# Altium footprint library RCID.PcbLib: 104 footprints (part 6 of 7)
Each footprint in its own frame and in the unit in brackets; x right, y up, seen from the top. Pads: shape width x height; smd on the part's side, far side on the other; paste and mask are expansions set on the pad; w line width, h text height; cw(c..) or ccw(c..) is an arc to the next point about the centre after c.
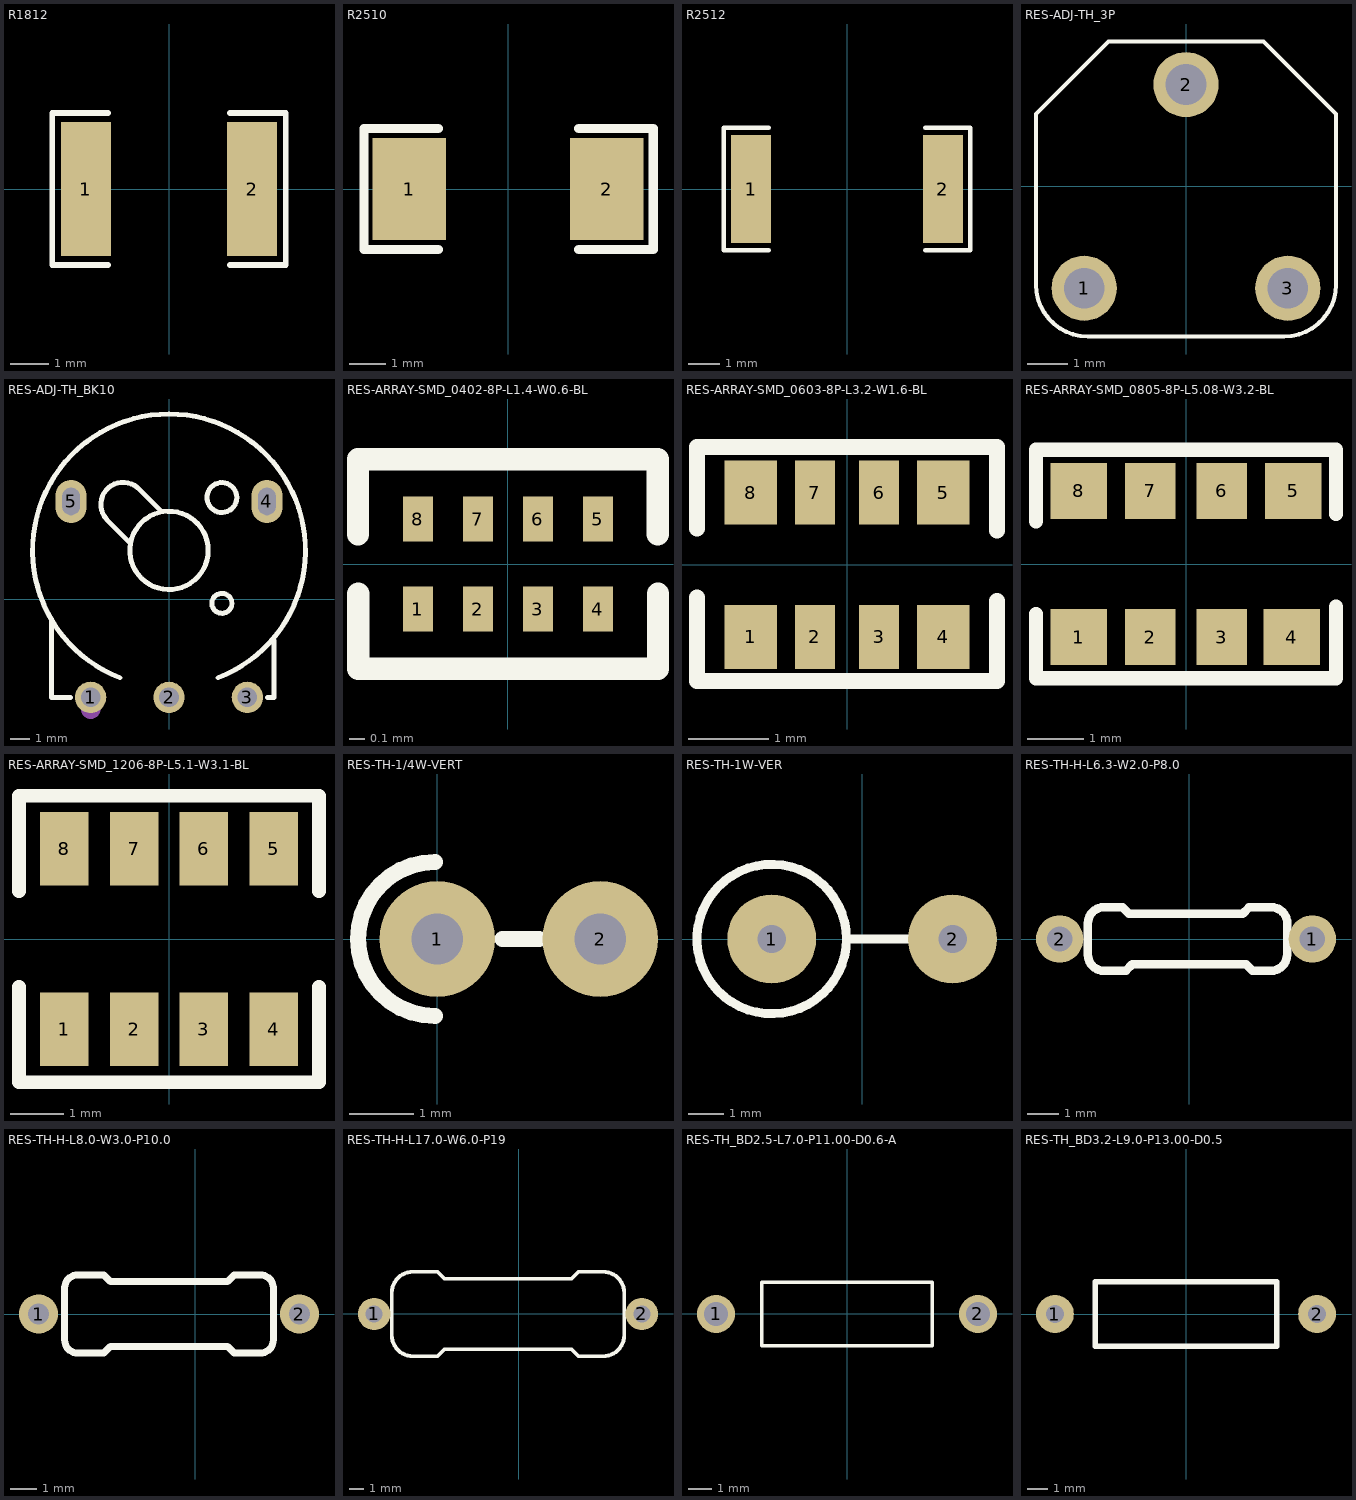
[diagram p5: the footprints below, top view; thin cyan lines are the x and y axes]

## R1812 [mm]
pads (2):
  rect 1.283x3.456 smd paste-100 mask+0.051: 1(-2.141,0) 2(2.141,0)
Top Overlay:
  lines w0.152: -1.576,-1.957 -3.011,-1.957 -3.011,1.957 -1.576,1.957 ; 1.576,-1.957 3.011,-1.957 3.011,1.957 1.576,1.957
Top Paste:
  region: 1.5,-1.628 1.5,-0.688 1.6,-0.588 1.836,-0.588 1.936,-0.488 1.936,0.488 1.836,0.588 1.6,0.588 1.5,0.688 1.5,1.628 1.6,1.728 2.683,1.728 2.783,1.628 2.783,-1.628 2.683,-1.728 1.6,-1.728
  region: -1.5,-1.628 -1.5,-0.688 -1.6,-0.588 -1.836,-0.588 -1.936,-0.488 -1.936,0.488 -1.836,0.588 -1.6,0.588 -1.5,0.688 -1.5,1.628 -1.6,1.728 -2.683,1.728 -2.783,1.628 -2.783,-1.628 -2.683,-1.728 -1.6,-1.728

## R2510 [mm]
pads (2):
  rect 2x2.8 smd paste+0 mask+0.05: 1(-2.7,0) 2(2.7,0)
Top Overlay:
  lines w0.254: -1.905,-1.651 -3.937,-1.651 -3.937,1.651 -1.905,1.651 ; 1.936,-1.651 3.968,-1.651 3.968,1.651 1.936,1.651

## R2512 [mm]
pads (2):
  rect 1.283x3.456 smd paste-100 mask+0.051: 1(-3.066,0) 2(3.066,0)
Top Overlay:
  lines w0.152: -2.501,-1.957 -3.936,-1.957 -3.936,1.957 -2.501,1.957 ; 2.501,-1.957 3.936,-1.957 3.936,1.957 2.501,1.957
Top Paste:
  region: -2.425,-1.628 -2.425,-0.688 -2.525,-0.588 -2.761,-0.588 -2.861,-0.488 -2.861,0.488 -2.761,0.588 -2.525,0.588 -2.425,0.688 -2.425,1.628 -2.525,1.728 -3.608,1.728 -3.708,1.628 -3.708,-1.628 -3.608,-1.728 -2.525,-1.728
  region: 2.425,-1.628 2.425,-0.688 2.525,-0.588 2.761,-0.588 2.861,-0.488 2.861,0.488 2.761,0.588 2.525,0.588 2.425,0.688 2.425,1.628 2.525,1.728 3.608,1.728 3.708,1.628 3.708,-1.628 3.608,-1.728 2.525,-1.728

## RES-ADJ-TH_3P [mm]
pads (3):
  round 1.6 hole 1 paste-2539.97 mask+0.051: 1(-2.5,-2.5) 2(0,2.5) 3(2.5,-2.5)
Top Overlay:
  lines w0.102: -3.683,-2.413 ccw(c-2.413,-2.413) -2.413,-3.683 2.413,-3.683 ccw(c2.413,-2.413) 3.683,-2.413 3.683,1.778 1.905,3.556 -1.905,3.556 -3.683,1.778 -3.683,-2.413

## RES-ADJ-TH_BK10 [mm]
pads (5):
  round 1.6 hole 1 paste-2539.97 mask+0.051: 1(-4,-5) 2(0,-5) 3(4,-5)
  oval 1.6x2.2 hole 0.9 slot 1.4 at 90 deg paste-2539.97 mask+0.051: 4(5,5) 5(-5,5)
Top Overlay:
  circle w0.254: c2.7,-0.2 r0.51
  circle w0.254: c2.7,5.2 r0.761
  circle w0.254: c0,2.5 r2
  lines w0.254: -6,-2.5 -6,-5 -5.031,-5 ; -6,-2.4 -6,-1 ; -2.5,-4 cw(c0,2.5) 2.5,-4 ; -2,2.9 -3.2,4.1 cw(c-2.347,4.846) -1.501,5.599 ; -1.5,5.6 -0.4,4.5 ; 5.031,-5 5.35,-5 5.35,-2.5 5.35,-2.1
Mechanical 15:
  circle w0.5: c-4,-5.6 r0.25

## RES-ARRAY-SMD_0402-8P-L1.4-W0.6-BL [mm]
pads (8):
  rect 0.2x0.3 smd paste+0 mask+0.051: 1(-0.6,-0.3) 2(-0.2,-0.3) 3(0.2,-0.3) 4(0.6,-0.3) 5(0.6,0.3) 6(0.2,0.3) 7(-0.2,0.3) 8(-0.6,0.3)
Top Overlay:
  lines w0.15: -1,-0.2 -1,-0.7 1,-0.7 1,-0.2 ; -1,0.2 -1,0.7 1,0.7 1,0.2

## RES-ARRAY-SMD_0603-8P-L3.2-W1.6-BL [mm]
pads (8):
  rect 0.65x0.8 smd paste+0 mask+0.051: 1(-1.2,-0.9) 4(1.2,-0.9) 5(1.2,0.9) 8(-1.2,0.9)
  rect 0.5x0.8 smd paste+0 mask+0.051: 2(-0.4,-0.9) 3(0.4,-0.9) 6(0.4,0.9) 7(-0.4,0.9)
Top Overlay:
  lines w0.2: -1.87,-0.41 -1.87,-1.45 1.87,-1.45 1.87,-0.45 ; -1.87,0.45 -1.87,1.47 1.87,1.47 1.87,0.43

## RES-ARRAY-SMD_0805-8P-L5.08-W3.2-BL [mm]
pads (8):
  rect 1x1 smd paste+0 mask+0.051: 1(-1.905,-1.3) 4(1.88,-1.3) 5(1.905,1.3) 8(-1.905,1.3)
  rect 0.9x1 smd paste+0 mask+0.051: 2(-0.635,-1.3) 3(0.635,-1.3) 6(0.635,1.3) 7(-0.635,1.3)
Top Overlay:
  lines w0.254: -2.667,-0.889 -2.667,-2.032 2.667,-2.032 2.667,-0.762 ; -2.667,0.762 -2.667,2.032 2.667,2.032 2.667,0.889

## RES-ARRAY-SMD_1206-8P-L5.1-W3.1-BL [mm]
pads (8):
  rect 0.9x1.37 smd paste+0 mask+0.051: 1(-1.95,-1.68) 2(-0.65,-1.68) 3(0.65,-1.68) 4(1.95,-1.68) 5(1.95,1.68) 6(0.65,1.68) 7(-0.65,1.68) 8(-1.95,1.68)
Top Overlay:
  lines w0.254: -2.794,-0.889 -2.794,-2.667 2.794,-2.667 2.794,-0.889 ; -2.794,0.889 -2.794,2.667 2.667,2.667 2.794,2.667 2.794,0.889

## RES-TH-1/4W-VERT [mm]
pads (2):
  round 1.8 hole 0.8 paste-2539.97 mask+0.102: 1(0,0) 2(2.54,0)
Top Overlay:
  lines w0.254: -0.035,-1.2 cw(c-0.035,0) -0.035,1.2 ; 1.016,0 1.587,0

## RES-TH-1W-VER [mm]
pads (2):
  round 2.5 hole 0.8 paste-2539.97 mask+0.051: 1(-2.54,0) 2(2.54,0)
Top Overlay:
  circle w0.254: c-2.54,0 r2.1
  lines w0.254: -0.318,0 2.54,0

## RES-TH-H-L6.3-W2.0-P8.0 [mm]
pads (2):
  round 1.5 hole 0.8 paste-2539.97 mask+0.102: 1(3.9,0) 2(-4.1,0)
Top Overlay:
  lines w0.27: -2.7,-1.005 cw(c-2.7,-0.5) -3.205,-0.5 -3.205,0.5 cw(c-2.7,0.5) -2.7,1.005 -2.11,1.005 -1.905,0.8 1.695,0.8 1.895,1 2.595,1 ; -2.7,-1 -2,-1 -1.8,-0.8 1.8,-0.8 2.005,-1.005 2.595,-1.005 ccw(c2.595,-0.5) 3.1,-0.5 3.1,0.495 cw(c3.105,0.495) 3.105,0.5 ccw(c2.6,0.5) 2.6,1.005

## RES-TH-H-L8.0-W3.0-P10.0 [mm]
pads (2):
  round 1.5 hole 0.8 paste-2539.97 mask+0.051: 1(-6,0) 2(4,0)
Top Overlay:
  lines w0.27: -5,1 cw(c-4.5,1) -4.5,1.5 -3.5,1.5 -3.25,1.25 1.25,1.25 1.5,1.5 2.5,1.5 cw(c2.5,1) 3,1 ; -5,1.032 -5,-1 ccw(c-4.5,-1) -4.5,-1.5 -3.5,-1.5 -3.25,-1.25 1.25,-1.25 1.5,-1.5 2.5,-1.5 ccw(c2.5,-1) 3,-1 3,1.032

## RES-TH-H-L17.0-W6.0-P19 [mm]
pads (2):
  round 2.3 hole 1.2 paste-2539.97 mask+0.051: 1(-10.25,0) 2(8.75,0)
Top Overlay:
  lines w0.27: -7.5,3 -5.75,3 -5.25,2.5 3.75,2.5 4.25,3 6,3 cw(c6,1.5) 7.5,1.5 7.5,-1.5 cw(c6,-1.5) 6,-3 4.25,-3 3.75,-2.5 -5.25,-2.5 -5.75,-3 -7.5,-3 cw(c-7.5,-1.5) -9,-1.5 -9,1.5 cw(c-7.5,1.5) -7.5,3

## RES-TH_BD2.5-L7.0-P11.00-D0.6-A [mm]
pads (2):
  round 1.6 hole 1 paste-2539.97 mask+0.051: 1(-5.5,0) 2(5.5,0)
Top Overlay:
  lines w0.152: -3.576,-1.326 3.576,-1.326 3.576,1.326 -3.576,1.326 -3.576,-1.326

## RES-TH_BD3.2-L9.0-P13.00-D0.5 [mil]
pads (2):
  round 74 hole 35.43 paste-99999 mask+2: 1(-255.91,0) 2(255.91,0)
Top Overlay:
  lines w10: -177.16,-62.99 -177.16,62.99 177.16,62.99 177.16,-62.99 -177.16,-62.99